# Altium footprint library Standard Footprints.PcbLib: 35 footprints (part 1 of 3)
Each footprint in its own frame and in the unit in brackets; x right, y up, seen from the top. Pads: shape width x height; smd on the part's side, far side on the other; paste and mask are expansions set on the pad; w line width, h text height; cw(c..) or ccw(c..) is an arc to the next point about the centre after c.
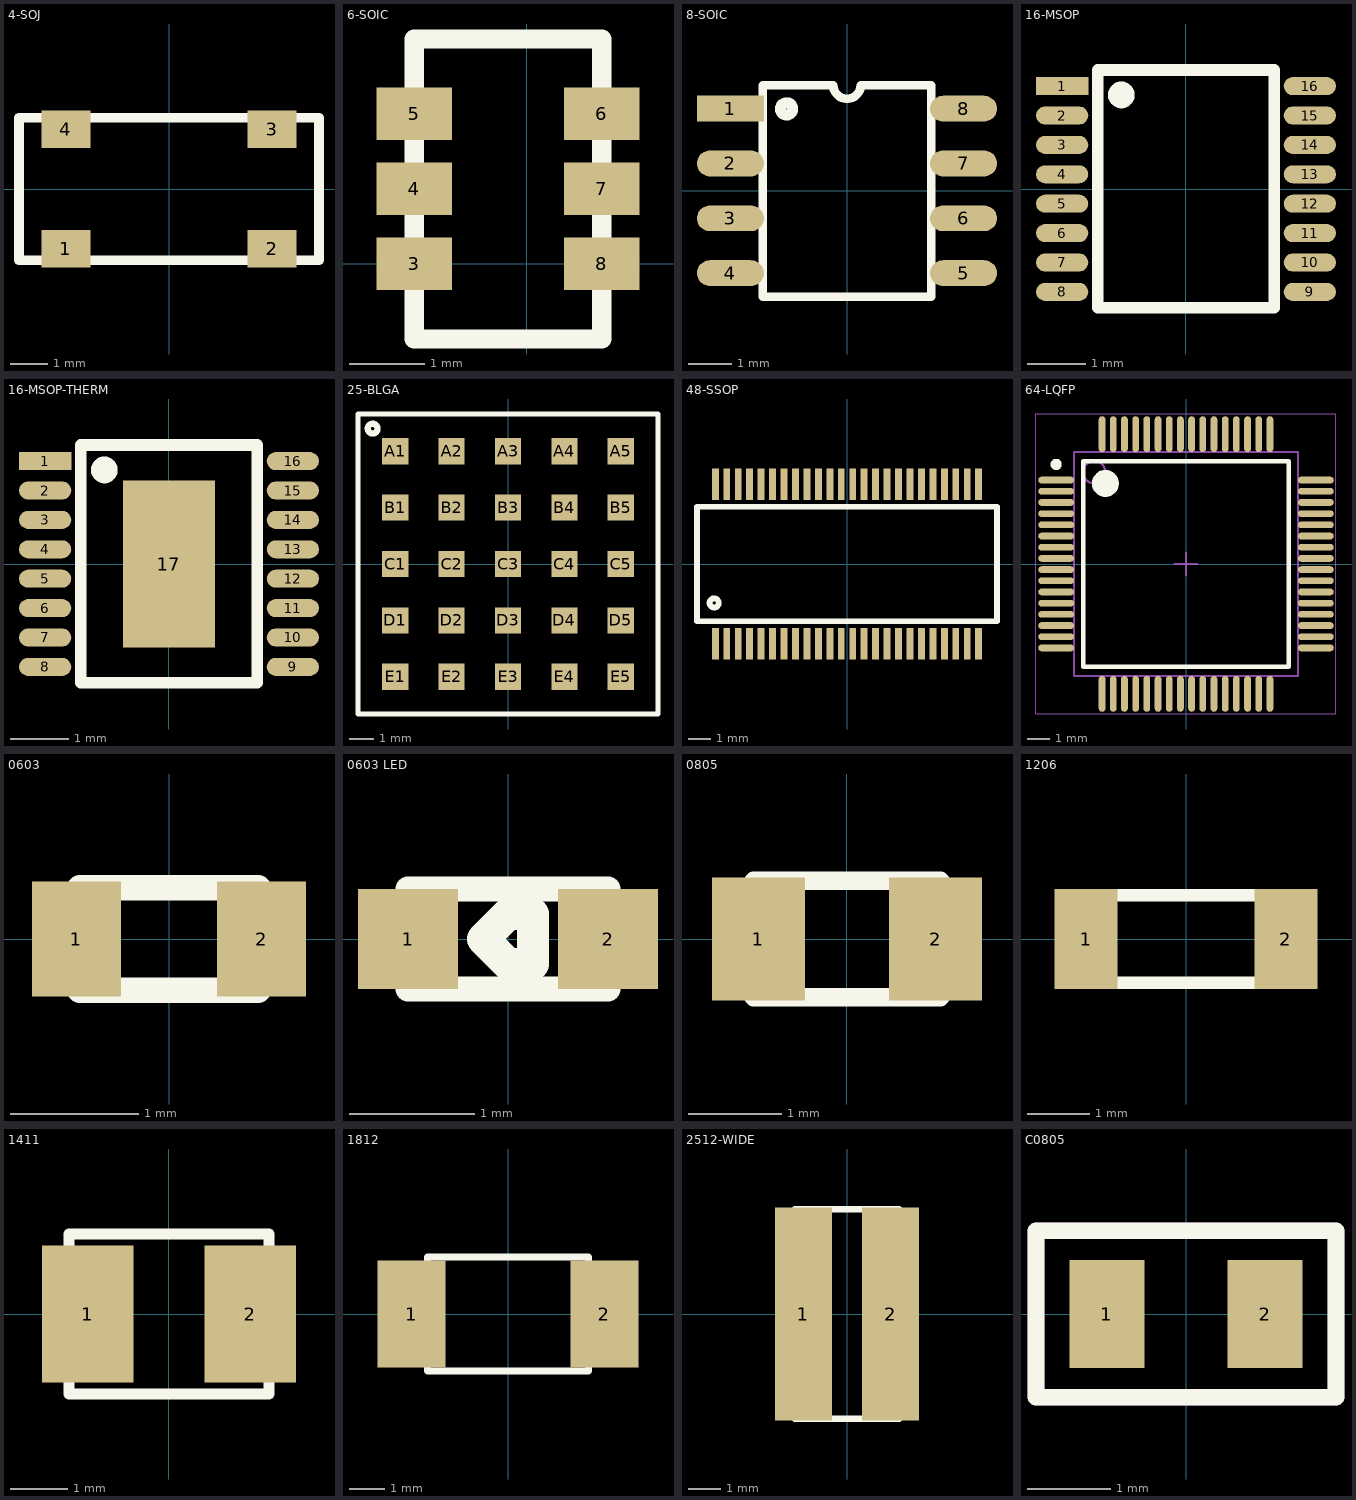
[diagram p0: the footprints below, top view; thin cyan lines are the x and y axes]

## 4-SOJ [mm]
pads (4):
  rect 1.3x1 smd: 1(-2.75,-1.6) 2(2.75,-1.6) 3(2.75,1.6) 4(-2.75,1.6)
Top Overlay:
  lines w0.254: -4,-1.9 4,-1.9 4,1.9 -4,1.9 -4,-1.9

## 6-SOIC [mm]
pads (6):
  rect 1x0.7 smd: 3(-1.5,0) 4(-1.5,1) 5(-1.5,2) 6(1,2) 7(1,1) 8(1,0)
Top Overlay:
  lines w0.254: -1.5,-1 1,-1 1,3 -1.5,3 -1.5,-1

## 8-SOIC [mm]
pads (8):
  rect 1.55x0.6 smd: 1(-2.7,1.905)
  oval 1.55x0.6 smd: 2(-2.7,0.635) 3(-2.7,-0.635) 4(-2.7,-1.905) 5(2.7,-1.905) 6(2.7,-0.635) 7(2.7,0.635) 8(2.7,1.905)
Top Overlay:
  circle w0.254: c-1.4,1.9 r0.141
  lines w0.2: -1.95,-2.45 1.95,-2.45 1.95,2.45 0.318,2.45 cw(c0,2.45) -0.318,2.45 -1.95,2.45 -1.95,-2.45

## 16-MSOP [mm]
pads (16):
  rect 0.889x0.305 smd: 1(-2.107,1.75)
  oval 0.889x0.305 smd: 2(-2.107,1.25) 3(-2.107,0.75) 4(-2.107,0.25) 5(-2.107,-0.25) 6(-2.107,-0.75) 7(-2.107,-1.25) 8(-2.107,-1.75) 9(2.107,-1.75) 10(2.107,-1.25) 11(2.107,-0.75) 12(2.107,-0.25) 13(2.107,0.25) 14(2.107,0.75) 15(2.107,1.25) 16(2.107,1.75)
Top Overlay:
  circle w0.254: c-1.1,1.6 r0.1
  lines w0.2: 1.5,-2.02 1.5,2.025 ; 1.5,-2.019 -1.5,-2.02 -1.5,2.025 1.5,2.025 ; 1.5,2.025 1.5,2.025

## 16-MSOP-THERM [mm]
pads (17):
  rect 0.889x0.305 smd: 1(-2.107,1.75)
  oval 0.889x0.305 smd: 2(-2.107,1.25) 3(-2.107,0.75) 4(-2.107,0.25) 5(-2.107,-0.25) 6(-2.107,-0.75) 7(-2.107,-1.25) 8(-2.107,-1.75) 9(2.107,-1.75) 10(2.107,-1.25) 11(2.107,-0.75) 12(2.107,-0.25) 13(2.107,0.25) 14(2.107,0.75) 15(2.107,1.25) 16(2.107,1.75)
  rect 1.561x2.845 smd: 17(0,0)
Top Overlay:
  circle w0.254: c-1.1,1.6 r0.1
  lines w0.2: 1.5,-2.02 1.5,2.025 ; 1.5,-2.019 -1.5,-2.02 -1.5,2.025 1.5,2.025 ; 1.5,2.025 1.5,2.025

## 25-BLGA [mm]
pads (25):
  rect 1.06x1.06 smd: A1(-4.58,4.58) A2(-2.29,4.58) A3(0,4.58) A4(2.29,4.58) A5(4.58,4.58) B1(-4.58,2.29) B2(-2.29,2.29) B3(0,2.29) B4(2.29,2.29) B5(4.58,2.29) C1(-4.58,0) C2(-2.29,0) C3(0,0) C4(2.29,0) C5(4.58,0) D1(-4.58,-2.29) D2(-2.29,-2.29) D3(0,-2.29) D4(2.29,-2.29) D5(4.58,-2.29) E1(-4.58,-4.58) E2(-2.29,-4.58) E3(0,-4.58) E4(2.29,-4.58) E5(4.58,-4.58)
Top Overlay:
  circle w0.254: c-5.5,5.5 r0.2
  lines w0.2: -6.095,-6.095 -6.095,6.095 6.095,6.095 6.095,-6.095 -6.095,-6.095

## 48-SSOP [mm]
pads (48):
  rect 0.3x1.37 smd: 1(-5.75,-3.475) 2(-5.25,-3.475) 3(-4.75,-3.475) 4(-4.25,-3.475) 5(-3.75,-3.475) 6(-3.25,-3.475) 7(-2.75,-3.475) 8(-2.25,-3.475) 9(-1.75,-3.475) 10(-1.25,-3.475) 11(-0.75,-3.475) 12(-0.25,-3.475) 13(0.25,-3.475) 14(0.75,-3.475) 15(1.25,-3.475) 16(1.75,-3.475) 17(2.25,-3.475) 18(2.75,-3.475) 19(3.25,-3.475) 20(3.75,-3.475) 21(4.25,-3.475) 22(4.75,-3.475) 23(5.25,-3.475) 24(5.75,-3.475) 25(5.75,3.475) 26(5.25,3.475) 27(4.75,3.475) 28(4.25,3.475) 29(3.75,3.475) 30(3.25,3.475) 31(2.75,3.475) 32(2.25,3.475) 33(1.75,3.475) 34(1.25,3.475) 35(0.75,3.475) 36(0.25,3.475) 37(-0.25,3.475) 38(-0.75,3.475) 39(-1.25,3.475) 40(-1.75,3.475) 41(-2.25,3.475) 42(-2.75,3.475) 43(-3.25,3.475) 44(-3.75,3.475) 45(-4.25,3.475) 46(-4.75,3.475) 47(-5.25,3.475) 48(-5.75,3.475)
Top Overlay:
  circle w0.254: c-5.8,-1.7 r0.2
  lines w0.254: -6.55,-2.5 6.55,-2.5 6.55,2.5 -6.55,2.5 -6.55,-2.5

## 64-LQFP [mm]
pads (64):
  oval 1.6x0.3 smd: 1(-5.8,3.75) 2(-5.8,3.25) 3(-5.8,2.75) 4(-5.8,2.25) 5(-5.8,1.75) 6(-5.8,1.25) 7(-5.8,0.75) 8(-5.8,0.25) 9(-5.8,-0.25) 10(-5.8,-0.75) 11(-5.8,-1.25) 12(-5.8,-1.75) 13(-5.8,-2.25) 14(-5.8,-2.75) 15(-5.8,-3.25) 16(-5.8,-3.75) 33(5.8,-3.75) 34(5.8,-3.25) 35(5.8,-2.75) 36(5.8,-2.25) 37(5.8,-1.75) 38(5.8,-1.25) 39(5.8,-0.75) 40(5.8,-0.25) 41(5.8,0.25) 42(5.8,0.75) 43(5.8,1.25) 44(5.8,1.75) 45(5.8,2.25) 46(5.8,2.75) 47(5.8,3.25) 48(5.8,3.75)
  oval 0.3x1.6 smd: 17(-3.75,-5.8) 18(-3.25,-5.8) 19(-2.75,-5.8) 20(-2.25,-5.8) 21(-1.75,-5.8) 22(-1.25,-5.8) 23(-0.75,-5.8) 24(-0.25,-5.8) 25(0.25,-5.8) 26(0.75,-5.8) 27(1.25,-5.8) 28(1.75,-5.8) 29(2.25,-5.8) 30(2.75,-5.8) 31(3.25,-5.8) 32(3.75,-5.8) 49(3.75,5.8) 50(3.25,5.8) 51(2.75,5.8) 52(2.25,5.8) 53(1.75,5.8) 54(1.25,5.8) 55(0.75,5.8) 56(0.25,5.8) 57(-0.25,5.8) 58(-0.75,5.8) 59(-1.25,5.8) 60(-1.75,5.8) 61(-2.25,5.8) 62(-2.75,5.8) 63(-3.25,5.8) 64(-3.75,5.8)
Top Overlay:
  circle w0.25: c-5.8,4.45 r0.125
  circle w0.6: c-3.6,3.6 r0.3
  lines w0.2: -4.6,-4.6 -4.6,4.6 4.6,4.6 4.6,-4.6 -4.6,-4.6
Mechanical 13:
  circle w0.1: c-4.1,4.1 r0.5
  lines w0.1: -5,-5 -5,5 5,5 5,-5 -5,-5
Mechanical 15:
  lines w0.05: -6.7,-6.7 -6.7,6.7 6.7,6.7 6.7,-6.7 -6.7,-6.7
  lines w0.1: -0.5,0 0.5,0 ; 0,-0.5 0,0.5
3D body: height 1.6, standoff 0.05, extent -5,-5 5,5

## 0603 [mm]
pads (2):
  rect 0.7x0.9 smd: 1(-0.725,0) 2(0.725,0)
Top Overlay:
  lines w0.2: -0.7,-0.4 0.7,-0.4 0.7,0.4 -0.7,0.4 -0.7,-0.4

## 0603 LED [mm]
pads (2):
  rect 0.8x0.8 smd: 1(-0.8,0) 2(0.8,0)
Top Overlay:
  lines w0.2: -0.8,-0.4 -0.8,0.4 0.8,0.4 0.8,-0.4 -0.8,-0.4
  lines w0.254: -0.2,0 0,0.2 0.2,0.2 0.2,-0.2 0,-0.2 -0.2,0
3D body "150060AS75000_STP_150060xS75000_rev1.stp": height 0.7, standoff 0, extent -0.8,-0.4 0.8,0.4

## 0805 [mm]
pads (2):
  rect 1x1.32 smd: 1(-0.95,0) 2(0.95,0)
Top Overlay:
  lines w0.2: -1,-0.625 1,-0.625 1,0.625 -1,0.625 -1,-0.625

## 1206 [mm]
pads (2):
  rect 1x1.6 smd: 1(-1.6,0) 2(1.6,0)
Top Overlay:
  lines w0.2: -1.6,-0.7 -1.6,0.7 1.6,0.7 1.6,-0.7 -1.6,-0.7

## 1411 [mm]
pads (2):
  rect 1.6x2.4 smd: 1(-1.425,0) 2(1.425,0)
Top Overlay:
  lines w0.2: -1.75,-1.4 -1.75,1.4 1.75,1.4 1.75,-1.4 -1.75,-1.4

## 1812 [mm]
pads (2):
  rect 1.9x3 smd: 1(-2.7,0) 2(2.7,0)
Top Overlay:
  lines w0.2: -2.25,-1.6 2.25,-1.6 2.25,1.6 -2.25,1.6 -2.25,-1.6
3D body "7427925_Download_STP_WE-CBF-1812_rev1.stp": height 1.51, standoff 0.01, extent -2.25,-1.6 2.25,1.6

## 2512-WIDE [mm]
pads (2):
  rect 1.73x6.5 smd: 1(-1.33,0) 2(1.33,0)
Top Overlay:
  lines w0.2: -1.6,-3.2 -1.6,3.2 1.6,3.2 1.6,-3.2 -1.6,-3.2

## C0805 [mm]
pads (2):
  rect 0.9x1.3 smd: 1(-0.95,0) 2(0.95,0)
Top Overlay:
  lines w0.2: -1.8,-1 -1.8,1 1.8,1 1.8,-1 -1.8,-1
Mechanical 5:
  lines w0.2: -1.8,-1 1.8,-1 1.8,1 -1.8,1 -1.8,-1
  text "'.Designator'" at -1.6,-0.102 h0.3
3D body "C0805.step": height 0.94, standoff 0, extent -1.054,-0.673 1.054,0.673